# Altium footprint library LIB_MVMC.PcbLib: 49 footprints (part 4 of 4)
Each footprint in its own frame and in the unit in brackets; x right, y up, seen from the top. Pads: shape width x height; smd on the part's side, far side on the other; paste and mask are expansions set on the pad; w line width, h text height; cw(c..) or ccw(c..) is an arc to the next point about the centre after c.
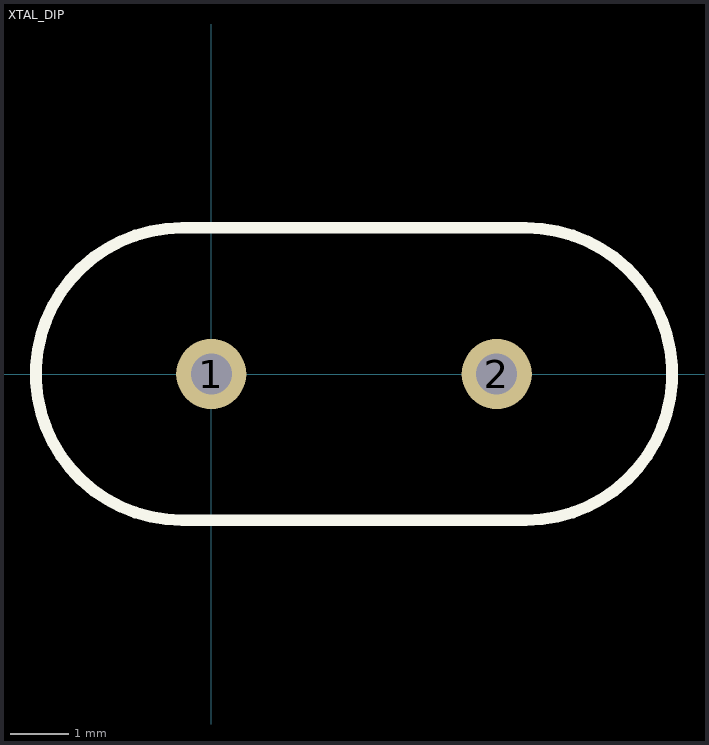
[diagram p3: the footprint, top view; thin cyan lines are the x and y axes]

## XTAL_DIP [mm]
pads (2):
  round 1.2 hole 0.7: 1(0,0) 2(4.88,0)
Top Overlay:
  lines w0.2: -0.5,-2.5 cw(c-0.5,0) -0.5,2.5 5.38,2.5 cw(c5.38,0) 5.38,-2.5 -0.5,-2.5
3D body "xtalcrystal.SLDPRT": height 3.68, standoff -13.2, extent -3.187,-2.48 8.163,2.52
3D body: height 0.25, standoff 0, extent 1.808,-0.9 1.808,-0.9